# Altium schematic symbol library MotorDriver.SchLib: 1 symbol
Pins are listed as number, name and electrical type; pins without a type are passive.

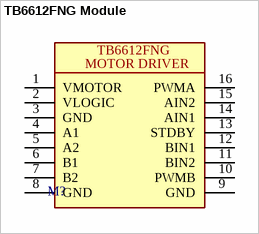
[diagram p0: symbol TB6612FNG Module]

## TB6612FNG Module
designator M?
Manufacturer 1: *; Manufacturer Part Number 1: *; Package: *; Supplier 1: *; Supplier Part Number 1: *
footprint TB6612FNG Module
pins: 1 VMOTOR, 2 VLOGIC, 3 GND, 4 A1, 5 A2, 6 B1, 7 B2, 8 GND, 9 GND, 10 PWMB, 11 BIN2, 12 BIN1, 13 STDBY, 14 AIN1, 15 AIN2, 16 PWMA
text: TB6612FNG; MOTOR DRIVER